# Altium footprint library ZMR330FTA.PcbLib: 1 footprints
Each footprint in its own frame and in the unit in brackets; x right, y up, seen from the top. Pads: shape width x height; smd on the part's side, far side on the other; paste and mask are expansions set on the pad; w line width, h text height; cw(c..) or ccw(c..) is an arc to the next point about the centre after c.
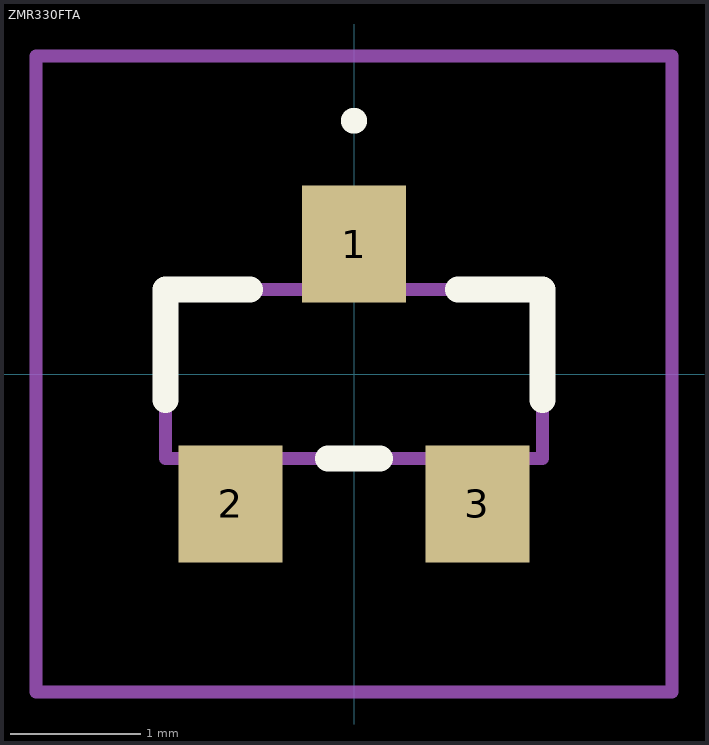
[diagram p0: the footprint, top view; thin cyan lines are the x and y axes]

## ZMR330FTA [mm]
pads (3):
  rect 0.8x0.9 smd: 1(0,1) 2(-0.95,-1) 3(0.95,-1)
Top Overlay:
  lines w0.1: 0,1.9 cw(c0,1.95) 0,2 ; 0,1.9 0,1.9 ; 0,1.9 ccw(c0,1.95) 0,2 ; 0,2 0,2
  lines w0.2: -1.45,-0.2 -1.45,0.65 -0.8,0.65 ; -0.2,-0.65 0.2,-0.65 ; 0.8,0.65 1.45,0.65 1.45,-0.2
Mechanical 15:
  lines w0.1: -1.45,-0.65 1.45,-0.65 1.45,0.65 -1.45,0.65 -1.45,-0.65
Mechanical 20:
  lines w0.1: -2.45,-2.45 2.45,-2.45 2.45,2.45 -2.45,2.45 -2.45,-2.45